# Altium footprint library Constant Power Charging Board.PcbLib: 17 footprints (part 1 of 2)
Each footprint in its own frame and in the unit in brackets; x right, y up, seen from the top. Pads: shape width x height; smd on the part's side, far side on the other; paste and mask are expansions set on the pad; w line width, h text height; cw(c..) or ccw(c..) is an arc to the next point about the centre after c.
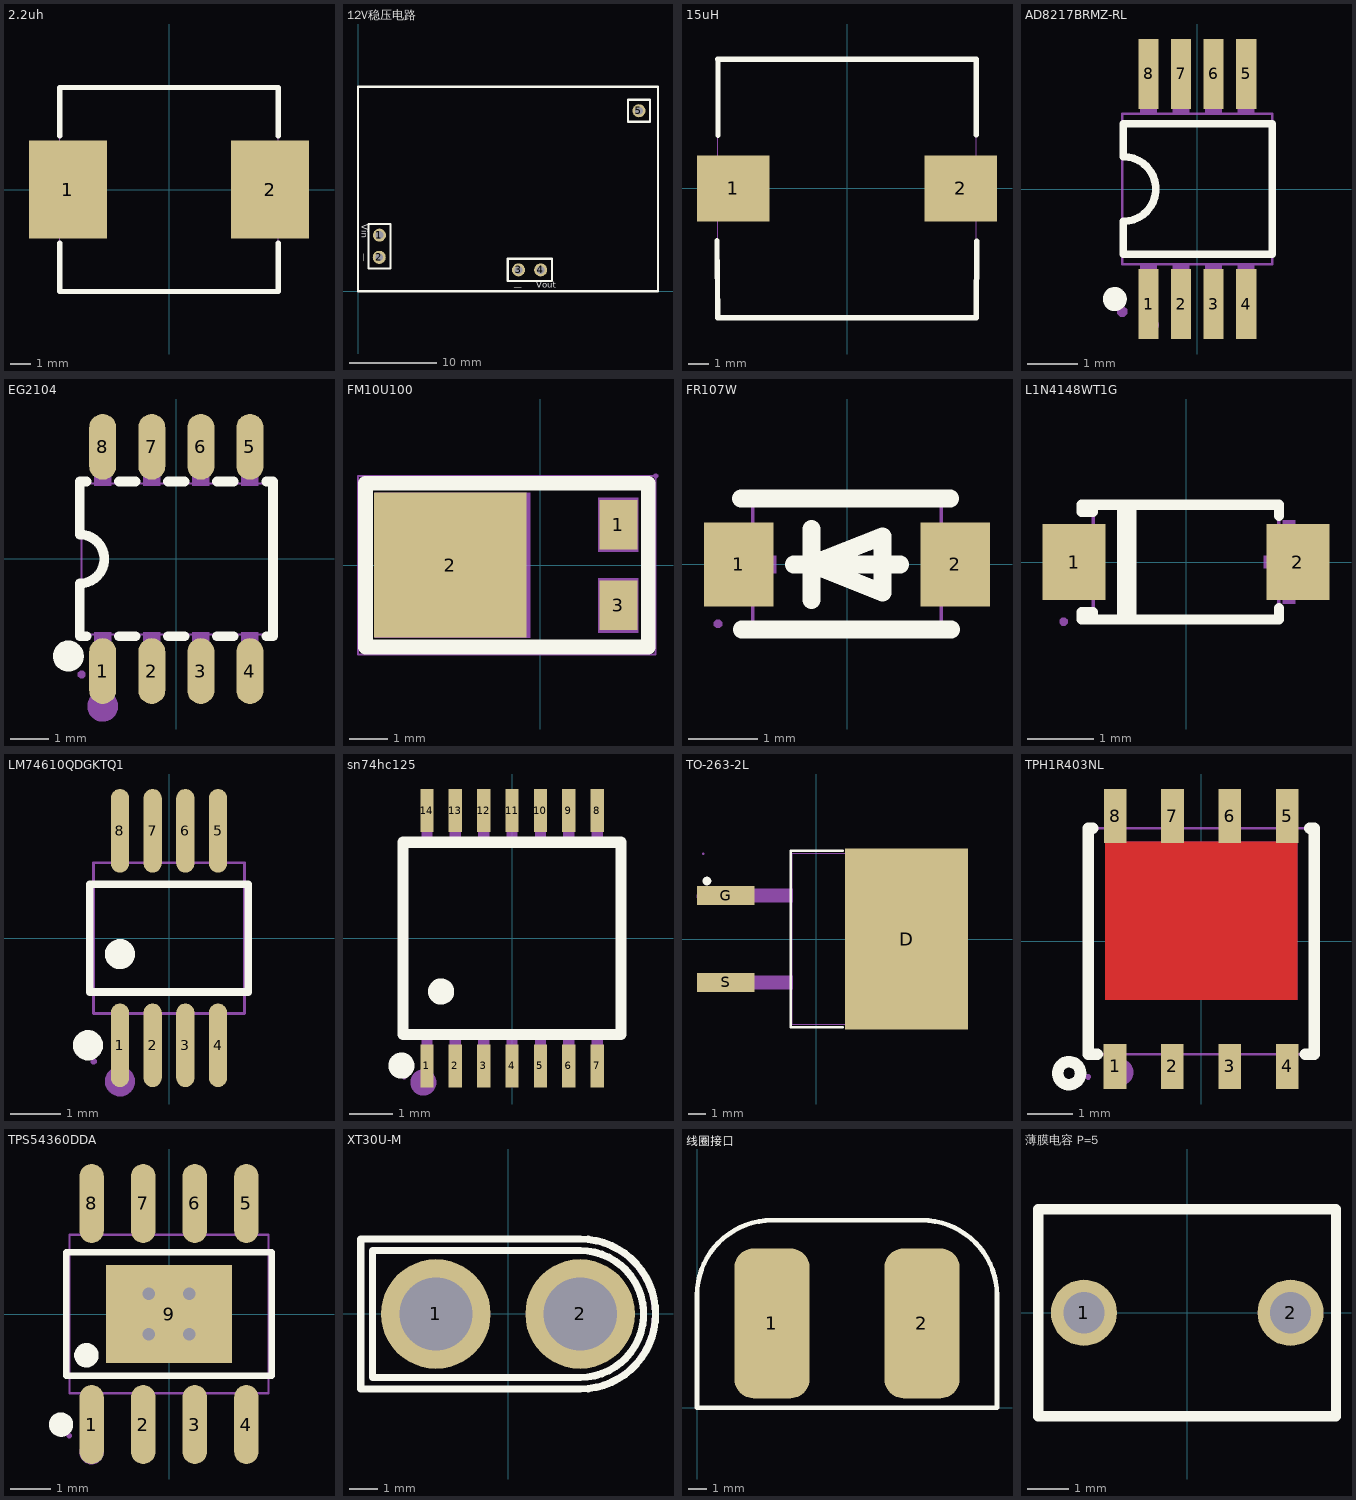
[diagram p0: the footprints below, top view; thin cyan lines are the x and y axes]

## 2.2uh [mm]
pads (2):
  rect 3.8x4.8 smd mask+0.051: 1(-4.95,0) 2(4.95,0)
Top Overlay:
  lines w0.254: -5.35,-2.631 -5.35,-5 5.35,-5 5.35,-2.631 ; -5.35,2.631 -5.35,5 5.35,5 5.35,2.631
Mechanical 15:
  region: -5.29,5 -5.29,5.025 -5.325,5.06 -5.375,5.06 -5.41,5.025 -5.41,5 -5.41,4.975 -5.375,4.94 -5.325,4.94 -5.29,4.975 -5.29,5
  region: -5.35,2.1 -3.35,2.1 -3.35,-2.1 -5.35,-2.1
  region: 3.35,2.1 5.35,2.1 5.35,-2.1 3.35,-2.1
  lines w0.051: -5.35,-5 -5.35,5 5.35,5 5.35,-5 -5.35,-5

## 12V稳压电路 [mm]
pads (5):
  round 1.5 hole 0.9 mask+0.05: 1(2.464,6.426) 2(2.438,3.886) 3(18.415,2.438) 4(20.955,2.438) 5(32.233,20.701)
Top Overlay:
  lines w0.254: 0,0 0,23.444 34.417,23.444 34.417,0 0,0 ; 1.194,2.616 1.194,7.696 3.734,7.696 3.734,2.616 1.194,2.616 ; 17.17,1.168 17.17,3.708 22.25,3.708 22.25,1.168 17.17,1.168 ; 30.963,19.431 33.503,19.431 33.503,21.971 30.963,21.971 30.963,19.431
  text "Vout" at 20.472,0.178 h1.2
  text "Vin" at 0.203,7.696 h1.2
  text "—" at 18.847,0.838 h1.2
  text "—" at 0.203,4.369 h1.2

## 15uH [mm]
pads (2):
  rect 3.5x3.2 smd mask+0.051: 1(-5.5,0) 2(5.5,0)
Top Overlay:
  lines w0.254: -6.278,-2.515 -6.25,-6.25 6.25,-6.25 6.268,-2.54 ; -6.25,6.25 6.25,6.25 ; -6.241,2.565 -6.241,6.241 ; 6.25,2.581 6.25,6.257
Mechanical 15:
  region: 4.25,1.5 6.25,1.5 6.25,-1.5 4.25,-1.5
  region: -6.25,1.5 -4.25,1.5 -4.25,-1.5 -6.25,-1.5
  region: -6.19,-6.25 -6.19,-6.225 -6.225,-6.19 -6.275,-6.19 -6.31,-6.225 -6.31,-6.25 -6.31,-6.275 -6.275,-6.31 -6.225,-6.31 -6.19,-6.275 -6.19,-6.25
  lines w0.051: -6.25,-6.25 6.25,-6.25 6.25,6.25 -6.25,6.25 -6.25,-6.25

## AD8217BRMZ-RL [mil]
pads (8):
  rect 15.98x55 smd mask+2: 1(-38.39,-90.55) 2(-12.8,-90.55) 3(12.8,-90.55) 4(38.39,-90.55) 5(38.39,90.55) 6(12.8,90.55) 7(-12.8,90.55) 8(-38.39,90.55)
Top Overlay:
  circle w9.45: c-64.96,-86.61 r4.72
  lines w5.91: -58.2,-51.18 -58.2,-25.5 ccw(c-58.2,0) -58.2,25.5 -58.2,51.18 59.05,51.18 59.05,-51.18 -58.2,-51.18
Mechanical 6:
  circle w7.87: c-38.19,-107.09 r3.94
Mechanical 15:
  region: -55.11,-96.46 -55.11,-94.83 -57.42,-92.52 -60.68,-92.52 -62.99,-94.83 -62.99,-96.46 -62.99,-98.09 -60.68,-100.4 -57.42,-100.4 -55.11,-98.09 -55.11,-96.46
  region: 6.4,-71 19.19,-71 19.19,-96.46 6.4,-96.46
  region: 6.42,-58.66 6.42,-72.44 19.17,-72.44 19.17,-58.66
  region: 31.99,-71 44.78,-71 44.78,-96.46 31.99,-96.46
  region: 32.01,-58.66 32.01,-72.44 44.77,-72.44 44.77,-58.66
  region: -19.19,-71 -6.4,-71 -6.4,-96.46 -19.19,-96.46
  region: -19.17,-58.66 -19.17,-72.44 -6.42,-72.44 -6.42,-58.66
  region: -44.78,-71 -31.99,-71 -31.99,-96.46 -44.78,-96.46
  region: -44.76,-58.66 -44.76,-72.44 -32.01,-72.44 -32.01,-58.66
  region: 19.19,71 6.4,71 6.4,96.46 19.19,96.46
  region: 19.18,58.66 19.18,72.44 6.42,72.44 6.42,58.66
  region: 44.78,71 31.99,71 31.99,96.46 44.78,96.46
  region: 44.77,58.66 44.77,72.44 32.01,72.44 32.01,58.66
  region: -6.4,71 -19.2,71 -19.2,96.46 -6.4,96.46
  region: -6.42,58.66 -6.42,72.44 -19.17,72.44 -19.17,58.66
  region: -31.99,71 -44.78,71 -44.78,96.46 -31.99,96.46
  region: -32.01,58.66 -32.01,72.44 -44.76,72.44 -44.76,58.66
  lines w2: -59.05,-59.05 59.05,-59.05 59.05,59.05 -59.05,59.05 -59.05,-59.05

## EG2104 [mm]
pads (8):
  oval 0.7x1.7 smd mask+0.051: 1(-1.905,-2.9) 2(-0.635,-2.9) 3(0.635,-2.9) 4(1.905,-2.9) 5(1.905,2.9) 6(0.635,2.9) 7(-0.635,2.9) 8(-1.905,2.9)
Top Overlay:
  lines w0.254: -2.326,-2 -2.5,-2 -2.5,-0.635 ccw(c-2.5,0) -2.499,0.635 -2.5,2 -2.326,2 ; -1.484,-2 -1.056,-2 ; -1.484,2 -1.056,2 ; -0.214,-2 0.214,-2 ; -0.214,2 0.214,2 ; 1.056,-2 1.484,-2 ; 1.056,2 1.484,2 ; 2.326,-2 2.5,-2 2.5,2 2.326,2
  lines w0.4: -2.794,-2.311 ccw(c-2.793,-2.511) -2.791,-2.311
Mechanical 6:
  circle w0.4: c-1.905,-3.81 r0.2
Mechanical 15:
  region: -2.35,-2.99 -2.35,-2.949 -2.409,-2.89 -2.492,-2.89 -2.55,-2.949 -2.55,-2.99 -2.55,-3.032 -2.492,-3.09 -2.409,-3.09 -2.35,-3.032 -2.35,-2.99
  region: 1.685,1.9 1.685,2.315 2.125,2.315 2.125,1.9
  region: 1.685,2.265 1.685,2.99 2.125,2.99 2.125,2.265
  region: 0.415,1.9 0.415,2.315 0.855,2.315 0.855,1.9
  region: 0.415,2.265 0.415,2.99 0.855,2.99 0.855,2.265
  region: -0.855,1.9 -0.855,2.315 -0.415,2.315 -0.415,1.9
  region: -0.855,2.265 -0.855,2.99 -0.415,2.99 -0.415,2.265
  region: -2.125,1.9 -2.125,2.315 -1.685,2.315 -1.685,1.9
  region: -2.125,2.265 -2.125,2.99 -1.685,2.99 -1.685,2.265
  region: 1.685,-2.315 1.685,-1.9 2.125,-1.9 2.125,-2.315
  region: 1.685,-2.99 1.685,-2.265 2.125,-2.265 2.125,-2.99
  region: 0.415,-2.315 0.415,-1.9 0.855,-1.9 0.855,-2.315
  region: 0.415,-2.99 0.415,-2.265 0.855,-2.265 0.855,-2.99
  region: -0.855,-2.315 -0.855,-1.9 -0.415,-1.9 -0.415,-2.315
  region: -0.855,-2.99 -0.855,-2.265 -0.415,-2.265 -0.415,-2.99
  region: -2.125,-2.315 -2.125,-1.9 -1.685,-1.9 -1.685,-2.315
  region: -2.125,-2.99 -2.125,-2.265 -1.685,-2.265 -1.685,-2.99
  lines w0.051: -2.45,-1.95 -2.45,1.95 2.45,1.95 2.45,-1.95 -2.45,-1.95

## FM10U100 [mm]
pads (3):
  rect 1x1.3 smd mask+0.051: 1(2.058,1.057) 3(2.058,-1.057)
  rect 4x3.8 smd mask+0.051: 2(-2.357,0)
Top Overlay:
  lines w0.387: -4.583,2.15 2.834,2.15 ; -4.582,-2.15 -4.582,2.15 ; -4.575,-2.15 2.842,-2.15 2.842,2.15
Mechanical 15:
  region: 3.096,2.344 3.096,2.368 3.061,2.404 3.011,2.404 2.976,2.368 2.976,2.344 2.976,2.319 3.011,2.284 3.061,2.284 3.096,2.319 3.096,2.344
  region: -4.333,-1.9 -4.333,1.9 -0.254,1.9 -0.254,-1.9
  region: 1.524,-0.345 2.578,-0.345 2.578,-1.768 1.524,-1.768
  region: 1.524,1.768 2.578,1.768 2.578,0.345 1.524,0.345
  lines w0.051: -4.776,-2.344 3.036,-2.344 3.036,2.344 -4.776,2.344 -4.776,-2.344

## FR107W [mm]
pads (2):
  rect 1x1.2 smd mask+0.051: 1(-1.55,0) 2(1.55,0)
Top Overlay:
  lines w0.254: -1.52,0.947 1.48,0.947 ; -1.507,-0.933 1.493,-0.933 ; -0.762,0 0.762,0 ; -0.508,-0.508 -0.508,0.508 ; -0.508,0 0.508,-0.406 0.508,0.406 -0.508,0
Mechanical 6:
  region: -1.905,0.127 -1.016,0.127 -1.016,-0.127 -1.905,-0.127
  region: 1.471,-0.436 1.471,0.453 1.725,0.453 1.725,-0.436
  region: 1.143,0.127 2.032,0.127 2.032,-0.127 1.143,-0.127
Mechanical 15:
  region: -1.79,-0.85 -1.79,-0.825 -1.825,-0.79 -1.875,-0.79 -1.91,-0.825 -1.91,-0.85 -1.91,-0.875 -1.875,-0.91 -1.825,-0.91 -1.79,-0.875 -1.79,-0.85
  region: -1.85,-0.5 -1.85,0.5 -1.3,0.5 -1.3,-0.5
  region: 1.3,-0.5 1.3,0.5 1.85,0.5 1.85,-0.5
  lines w0.051: -1.35,-0.85 -1.35,0.85 1.35,0.85 1.35,-0.85 -1.35,-0.85

## L1N4148WT1G [mm]
pads (2):
  rect 0.95x1.15 smd mask+0.051: 1(-1.692,0) 2(1.692,0)
Top Overlay:
  lines w0.152: -0.97,-0.866 -0.97,0.866 ; -0.827,-0.866 -0.827,0.866 ; 1.406,-0.698 1.406,-0.866 -1.406,-0.866 ; 1.406,0.698 1.406,0.866 -1.406,0.866 ; -1.406,-0.866 -1.406,-0.755 -1.58,-0.755 -1.58,-0.866 -1.406,-0.866 ; -1.406,0.866 -1.406,0.755 -1.58,0.755 -1.58,0.866 -1.406,0.866
Mechanical 6:
  region: 1.651,0.635 1.651,-0.629 1.461,-0.629 1.461,0.635
  region: 1.935,0.098 1.935,-0.092 1.177,-0.092 1.177,0.098
  region: -2.03,0.095 -2.03,-0.095 -1.272,-0.095 -1.272,0.095
Mechanical 15:
  region: 1.851,-0.465 1.851,0.465 1.301,0.465 1.301,-0.465
  region: -1.851,-0.465 -1.851,0.465 -1.301,0.465 -1.301,-0.465
  region: -1.79,-0.9 -1.79,-0.875 -1.826,-0.84 -1.875,-0.84 -1.91,-0.875 -1.91,-0.9 -1.91,-0.925 -1.875,-0.96 -1.826,-0.96 -1.79,-0.925 -1.79,-0.9
  lines w0.051: -1.4,-0.9 1.4,-0.9 1.4,0.9 -1.4,0.9 -1.4,-0.9

## LM74610QDGKTQ1 [mm]
pads (8):
  oval 0.364x1.662 smd mask+0.051: 1(-0.975,-2.131) 2(-0.325,-2.131) 3(0.325,-2.131) 4(0.975,-2.131) 5(0.975,2.131) 6(0.325,2.131) 7(-0.325,2.131) 8(-0.975,2.131)
Top Overlay:
  circle w0.3: c-0.975,-0.319 r0.15
  circle w0.3: c-1.609,-2.131 r0.15
  lines w0.152: -1.576,-1.071 -1.576,1.071 1.576,1.071 1.576,-1.071 -1.576,-1.071
Mechanical 6:
  circle w0.3: c-0.975,-2.85 r0.15
Mechanical 15:
  region: -1.44,-2.45 -1.44,-2.425 -1.475,-2.39 -1.525,-2.39 -1.56,-2.425 -1.56,-2.45 -1.56,-2.475 -1.525,-2.51 -1.475,-2.51 -1.44,-2.475 -1.44,-2.45
  region: -1.133,-2.45 -1.133,-1.9 -0.817,-1.9 -0.817,-2.45
  region: -1.133,-1.91 -1.133,-1.49 -0.817,-1.49 -0.817,-1.91
  region: -0.482,-2.45 -0.482,-1.9 -0.167,-1.9 -0.167,-2.45
  region: -0.482,-1.91 -0.482,-1.49 -0.167,-1.49 -0.167,-1.91
  region: 0.167,-2.45 0.167,-1.9 0.482,-1.9 0.482,-2.45
  region: 0.167,-1.91 0.167,-1.49 0.482,-1.49 0.482,-1.91
  region: 0.817,-2.45 0.817,-1.9 1.133,-1.9 1.133,-2.45
  region: 0.817,-1.91 0.817,-1.49 1.133,-1.49 1.133,-1.91
  region: -1.133,2.45 -1.133,1.9 -0.817,1.9 -0.817,2.45
  region: -1.133,1.91 -1.133,1.49 -0.817,1.49 -0.817,1.91
  region: -0.482,2.45 -0.482,1.9 -0.167,1.9 -0.167,2.45
  region: -0.482,1.91 -0.482,1.49 -0.167,1.49 -0.167,1.91
  region: 0.167,2.45 0.167,1.9 0.482,1.9 0.482,2.45
  region: 0.167,1.91 0.167,1.49 0.482,1.49 0.482,1.91
  region: 0.817,2.45 0.817,1.9 1.133,1.9 1.133,2.45
  region: 0.817,1.91 0.817,1.49 1.133,1.49 1.133,1.91
  lines w0.051: -1.5,-1.5 -1.5,1.5 1.5,1.5 1.5,-1.5 -1.5,-1.5

## sn74hc125 [mil]
pads (14):
  rect 12x39 smd paste+0 mask+1.97: 1(-76.77,-115.16) 2(-51.18,-115.16) 3(-25.59,-115.16) 4(0,-115.16) 5(25.59,-115.16) 6(51.18,-115.16) 7(76.77,-115.16) 8(76.77,115.16) 9(51.18,115.16) 10(25.59,115.16) 11(0,115.16) 12(-25.59,115.16) 13(-51.18,115.16) 14(-76.77,115.16)
Top Overlay:
  circle w11.81: c-99.85,-114.84 r5.91
  circle w11.81: c-64,-48 r5.91
  lines w10: -98.42,-86.61 98.42,-86.61 98.42,86.61 -98.42,86.61 -98.42,-86.61
Mechanical 6:
  circle w11.81: c-80,-130 r5.91
Mechanical 15:
  drawing of 33 lines, arcs and shapes, not listed

## TO-263-2L [mil]
pads (3):
  rect 282.7x416 smd mask+2: D(208.1,0)
  rect 132.23x44.65 smd mask+2: G(-208.1,100) S(-208.1,-100)
Top Overlay:
  circle w10: c-251.37,133.38 r5
  lines w6: 60.75,-203 -58.3,-203 -58.3,203 60.75,203
Mechanical 6:
  circle w10: c-265.44,98.08 r5
Mechanical 15:
  region: 66.75,-200 66.75,200 297.23,200 337.23,160 337.23,-160 297.23,-200
  region: -161.78,-115.94 -161.78,-84.06 -54.3,-84.06 -54.3,-115.94
  region: -261.09,-115.94 -261.09,-84.06 -161.09,-84.06 -161.09,-115.94
  region: -161.78,84.06 -161.78,115.94 -54.3,115.94 -54.3,84.06
  region: -261.09,84.06 -261.09,115.94 -161.09,115.94 -161.09,84.06
  region: -257.55,196.19 -257.55,197.17 -258.93,198.55 -260.88,198.55 -262.27,197.17 -262.27,196.19 -262.27,195.21 -260.88,193.83 -258.93,193.83 -257.55,195.21 -257.55,196.19
  lines w2: -54.73,-196.33 303.53,-196.33 303.53,197.37 -54.73,197.37 -54.73,-196.33

## TPH1R403NL [mm]
pads (8):
  rect 0.5x1 smd mask+0.05: 1(-1.906,-2.77) 2(-0.636,-2.77) 3(0.634,-2.77) 4(1.904,-2.77)
  rect 0.5x1.2 smd mask+0.05: 5(1.906,2.77) 6(0.636,2.77) 7(-0.634,2.77) 8(-1.904,2.77)
Top Layer:
  region: -2.125,2.2 2.125,2.2 2.125,-1.3 -2.125,-1.3
Top Overlay:
  circle w0.254: c-2.921,-2.921 r0.254
  lines w0.254: -2.4,2.5 -2.5,2.5 -2.5,-2.5 -2.3,-2.5 ; 2.3,-2.5 2.5,-2.5 2.5,2.5 2.4,2.5
Top Paste:
  region: -2.125,2.2 -2.155,2.2 -2.155,3.37 -1.655,3.37 -1.655,2.2 -0.885,2.2 -0.885,3.37 -0.385,3.37 -0.385,2.2 0.385,2.2 0.385,3.37 0.885,3.37 0.885,2.2 1.655,2.2 1.655,3.37 2.155,3.37 2.155,2.17 2.125,2.17 2.125,-1.3 -2.125,-1.3
  region: 2.153,-2.269 2.153,-3.27 1.655,-3.27 1.655,-2.269
  region: 0.883,-2.269 0.883,-3.27 0.385,-3.27 0.385,-2.269
  region: -0.387,-2.269 -0.387,-3.27 -0.885,-3.27 -0.885,-2.269
  region: -1.657,-2.269 -1.657,-3.27 -2.155,-3.27 -2.155,-2.269
Mechanical 6:
  circle w0.3: c-1.8,-2.9 r0.15
Mechanical 15:
  region: -2.125,2.2 2.125,2.2 2.125,-1.3 -2.125,-1.3
  region: -2.125,2.2 2.125,2.2 2.125,-1.3 -2.125,-1.3
  region: 0.436,2.2 0.436,3 0.836,3 0.836,2.2
  region: -0.834,2.2 -0.834,3 -0.434,3 -0.434,2.2
  region: -2.104,2.2 -2.104,3 -1.704,3 -1.704,2.2
  region: 1.706,2.2 1.706,3 2.106,3 2.106,2.2
  region: -2.106,-3 -2.106,-2.4 -1.706,-2.4 -1.706,-3
  region: -0.836,-3 -0.836,-2.4 -0.436,-2.4 -0.436,-3
  region: 0.434,-3 0.434,-2.4 0.834,-2.4 0.834,-3
  region: 1.704,-3 1.704,-2.4 2.104,-2.4 2.104,-3
  region: -2.44,-3 -2.44,-2.975 -2.475,-2.94 -2.525,-2.94 -2.56,-2.975 -2.56,-3 -2.56,-3.025 -2.525,-3.06 -2.475,-3.06 -2.44,-3.025 -2.44,-3
  lines w0.051: -2.5,-2.5 -2.5,2.5 2.5,2.5 2.5,-2.5 -2.5,-2.5

## TPS54360DDA [mm]
pads (9):
  oval 0.602x1.941 smd mask+0.051: 1(-1.905,-2.721) 2(-0.635,-2.721) 3(0.635,-2.721) 4(1.905,-2.721) 5(1.905,2.721) 6(0.635,2.721) 7(-0.635,2.721) 8(-1.905,2.721)
  rect 3.098x2.41 smd mask+0.051: 9(0,0)
via 0.5,-0.5 diameter 0.61 hole 0.305
via -0.5,-0.5 diameter 0.61 hole 0.305
via 0.5,0.5 diameter 0.61 hole 0.305
via -0.5,0.5 diameter 0.61 hole 0.305
Top Overlay:
  circle w0.3: c-2.658,-2.721 r0.15
  circle w0.3: c-2.032,-1.016 r0.15
  lines w0.152: -2.526,-1.521 2.526,-1.521 2.526,1.521 -2.526,1.521 -2.526,-1.521
Mechanical 6:
  circle w0.3: c-1.905,-3.4 r0.15
Mechanical 15:
  region: -1.549,1.205 1.549,1.205 1.549,-1.205 -1.549,-1.205
  region: 1.69,2.36 1.69,1.94 2.12,1.94 2.12,2.36
  region: 1.69,3 1.69,2.35 2.12,2.35 2.12,3
  region: 0.42,2.36 0.42,1.94 0.85,1.94 0.85,2.36
  region: 0.42,3 0.42,2.35 0.85,2.35 0.85,3
  region: -0.85,2.36 -0.85,1.94 -0.42,1.94 -0.42,2.36
  region: -0.85,3 -0.85,2.35 -0.42,2.35 -0.42,3
  region: -2.12,2.36 -2.12,1.94 -1.69,1.94 -1.69,2.36
  region: -2.12,3 -2.12,2.35 -1.69,2.35 -1.69,3
  region: 1.69,-2.36 1.69,-1.94 2.12,-1.94 2.12,-2.36
  region: 1.69,-3 1.69,-2.35 2.12,-2.35 2.12,-3
  region: 0.42,-2.36 0.42,-1.94 0.85,-1.94 0.85,-2.36
  region: 0.42,-3 0.42,-2.35 0.85,-2.35 0.85,-3
  region: -0.85,-2.36 -0.85,-1.94 -0.42,-1.94 -0.42,-2.36
  region: -0.85,-3 -0.85,-2.35 -0.42,-2.35 -0.42,-3
  region: -2.12,-2.36 -2.12,-1.94 -1.69,-1.94 -1.69,-2.36
  region: -2.12,-3 -2.12,-2.35 -1.69,-2.35 -1.69,-3
  region: -2.39,-3 -2.39,-2.975 -2.425,-2.94 -2.475,-2.94 -2.51,-2.975 -2.51,-3 -2.51,-3.025 -2.475,-3.06 -2.425,-3.06 -2.39,-3.025 -2.39,-3
  lines w0.051: -2.45,-1.95 2.45,-1.95 2.45,1.95 -2.45,1.95 -2.45,-1.95

## XT30U-M [mm]
pads (2):
  round 3.8 hole 2.54 mask+0.05: 1(-2.5,0) 2(2.5,0)
Top Overlay:
  lines w0.254: 2.5,2.2 cw(c2.5,0) 2.501,-2.2 ; 2.5,2.2 2.5,2.2 ; 2.5,2.2 2,2.2 -4.7,2.2 -4.7,-2.2 2,-2.2 2.501,-2.2 ; 2.501,-2.2 2.501,-2.2 ; -5.1,-2.6 2.514,-2.6 ccw(c2.514,0) 2.514,2.6 -5.1,2.6 -5.1,-2.6
Mechanical 6:
  region: 2.5,2.7 -5.1,2.7 -5.2,2.6 -5.2,-2.6 -5.1,-2.7 2.5,-2.7 2.5,-2.5 -5,-2.5 -5,2.5 2.5,2.5
  region: 2.5,-2.5 2.745,-2.488 3.226,-2.392 3.678,-2.205 4.086,-1.933 4.432,-1.586 4.705,-1.178 4.892,-0.726 4.988,-0.245 5,0 5.2,0 5.2,-0.177 5.154,-0.528 5.062,-0.87 4.927,-1.197 4.75,-1.503 4.534,-1.784 4.284,-2.034 4.003,-2.25 3.697,-2.427 3.37,-2.562 3.028,-2.654 2.677,-2.7 2.5,-2.7
  region: 5,0 4.988,0.245 4.892,0.726 4.705,1.178 4.432,1.586 4.086,1.933 3.678,2.205 3.226,2.392 2.745,2.488 2.5,2.5 2.5,2.7 2.677,2.7 3.028,2.654 3.37,2.562 3.697,2.427 4.003,2.25 4.284,2.034 4.534,1.784 4.75,1.503 4.927,1.197 5.062,0.87 5.154,0.528 5.2,0.177 5.2,0
Mechanical 15:
  region: -1.5,0 -1.5,0.132 -1.568,0.386 -1.7,0.614 -1.886,0.8 -2.114,0.932 -2.368,1 -2.632,1 -2.886,0.932 -3.114,0.8 -3.3,0.614 -3.432,0.386 -3.5,0.132 -3.5,0 -3.5,-0.132 -3.432,-0.386 -3.3,-0.614 -3.114,-0.8 -2.886,-0.932 -2.632,-1 -2.368,-1 -2.114,-0.932 -1.886,-0.8 -1.7,-0.614 -1.568,-0.386 -1.5,-0.132 -1.5,0
  region: 3.5,0 3.5,0.132 3.432,0.386 3.3,0.614 3.114,0.8 2.886,0.932 2.632,1 2.368,1 2.114,0.932 1.886,0.8 1.7,0.614 1.568,0.386 1.5,0.132 1.5,0 1.5,-0.132 1.568,-0.386 1.7,-0.614 1.886,-0.8 2.114,-0.932 2.368,-1 2.632,-1 2.886,-0.932 3.114,-0.8 3.3,-0.614 3.432,-0.386 3.5,-0.132 3.5,0
  region: -5.04,-2.6 -5.04,-2.575 -5.075,-2.54 -5.125,-2.54 -5.16,-2.575 -5.16,-2.6 -5.16,-2.625 -5.125,-2.66 -5.075,-2.66 -5.04,-2.625 -5.04,-2.6
  lines w0.051: -5.1,-2.6 2.514,-2.6 ccw(c2.514,0) 5.114,0 ccw(c2.514,0) 2.514,2.6 -5.08,2.54 ccw(c-5.08,2.52) -5.1,2.52 -5.1,-2.6

## 线圈接口 [mm]
pads (2):
  rrect50% 4x8 smd mask+0.102: 1(4,4.5) 2(12,4.5)
Top Overlay:
  lines w0.254: 0,0 16,0 16,6 ccw(c12,6) 12,10 4,10 ccw(c4,6) 0,6 0,0

## 薄膜电容 P=5 [mm]
pads (2):
  round 1.6 hole 1 mask+0.051: 1(-2.5,0) 2(2.5,0)
Top Overlay:
  lines w0.254: -3.6,-2.5 -3.6,2.5 3.6,2.5 3.6,-2.5 -3.6,-2.5
Mechanical 15:
  region: -3.54,-2.5 -3.54,-2.475 -3.575,-2.44 -3.625,-2.44 -3.66,-2.475 -3.66,-2.5 -3.66,-2.525 -3.625,-2.56 -3.575,-2.56 -3.54,-2.525 -3.54,-2.5
  region: 2.8,0 2.8,0.06 2.754,0.17 2.67,0.254 2.56,0.3 2.44,0.3 2.33,0.254 2.246,0.17 2.2,0.06 2.2,0 2.2,-0.06 2.246,-0.17 2.33,-0.254 2.44,-0.3 2.56,-0.3 2.67,-0.254 2.754,-0.17 2.8,-0.06 2.8,0
  region: -2.2,0 -2.2,0.06 -2.246,0.17 -2.33,0.254 -2.44,0.3 -2.56,0.3 -2.67,0.254 -2.754,0.17 -2.8,0.06 -2.8,0 -2.8,-0.06 -2.754,-0.17 -2.67,-0.254 -2.56,-0.3 -2.44,-0.3 -2.33,-0.254 -2.246,-0.17 -2.2,-0.06 -2.2,0
  lines w0.051: -3.6,-2.5 -3.6,2.5 3.6,2.5 3.6,-2.5 -3.6,-2.5